# Altium footprint library Mixer.PcbLib: 35 footprints (part 1 of 3)
Each footprint in its own frame and in the unit in brackets; x right, y up, seen from the top. Pads: shape width x height; smd on the part's side, far side on the other; paste and mask are expansions set on the pad; w line width, h text height; cw(c..) or ccw(c..) is an arc to the next point about the centre after c.
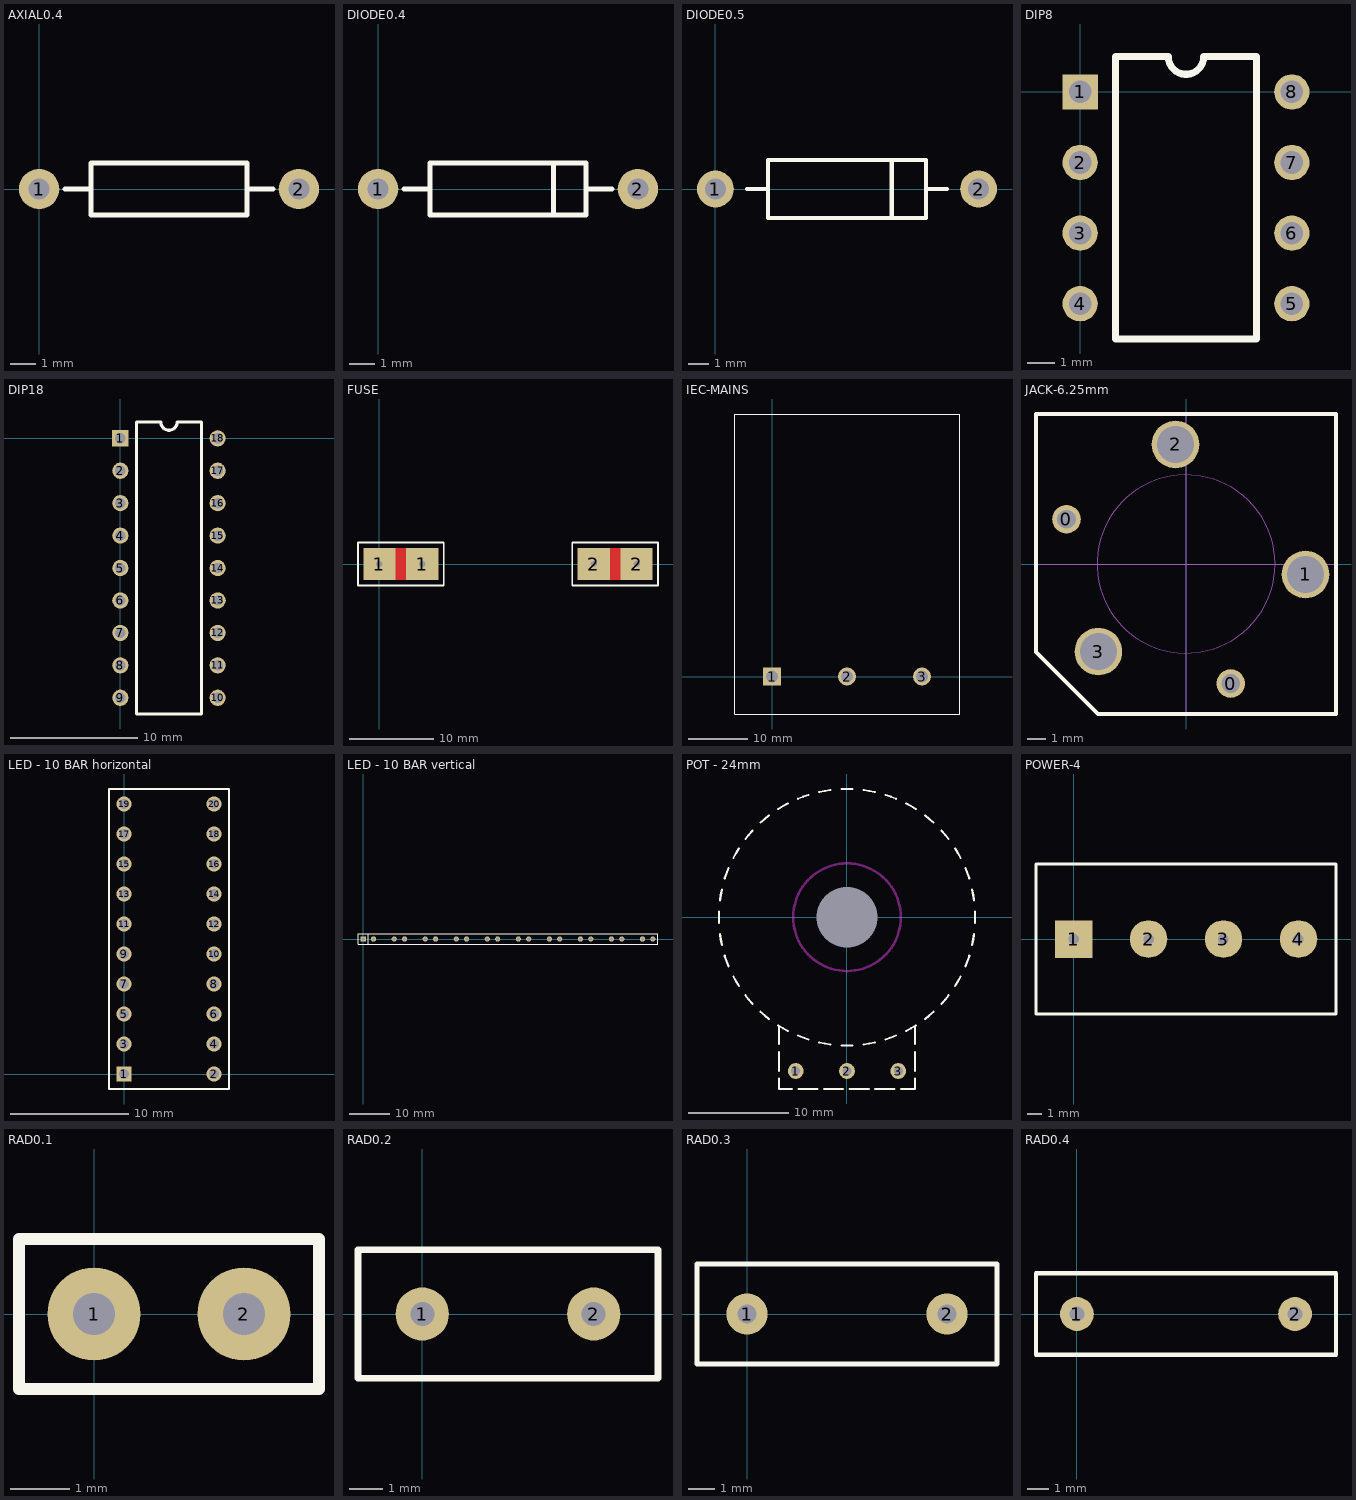
[diagram p0: the footprints below, top view; thin cyan lines are the x and y axes]

## AXIAL0.4 [mil]
pads (2):
  round 62 hole 32: 1(0,0) 2(400,0)
TopOverlay:
  lines w8: 40,0 80,0 ; 320,0 360,0 ; 80,-40 320,-40 320,40 80,40 80,-40

## DIODE0.4 [mil]
pads (2):
  round 62 hole 32: 1(0,0) 2(400,0)
TopOverlay:
  lines w8: 40,0 80,0 ; 270,-40 270,40 ; 320,0 360,0 ; 80,-40 80,40 320,40 320,-40 80,-40

## DIODE0.5 [mil]
pads (2):
  round 70 hole 40: 1(0,0) 2(500,0)
TopOverlay:
  lines w8: 60,0 100,0 ; 335,-55 335,55 ; 400,0 440,0 ; 100,-55 100,55 400,55 400,-55 100,-55

## DIP8 [mil]
pads (8):
  rect 50x50 hole 32: 1(0,0)
  round 50 hole 32: 2(0,-100) 3(0,-200) 4(0,-300) 5(300,-300) 6(300,-200) 7(300,-100) 8(300,0)
TopOverlay:
  lines w10: 50,-350 50,50 125,50 ccw(c150,50) 175,50 250,50 250,-350 50,-350

## DIP18 [mil]
pads (18):
  rect 50x50 hole 32: 1(0,0)
  round 50 hole 32: 2(0,-100) 3(0,-200) 4(0,-300) 5(0,-400) 6(0,-500) 7(0,-600) 8(0,-700) 9(0,-800) 10(300,-800) 11(300,-700) 12(300,-600) 13(300,-500) 14(300,-400) 15(300,-300) 16(300,-200) 17(300,-100) 18(300,0)
TopOverlay:
  lines w10: 50,-850 250,-850 250,50 175,50 cw(c150,50) 125,50 50,50 50,-850

## FUSE [mil]
pads (4):
  rect 150x150 hole 30: 1(0,0) 1(200,0) 2(1000,0) 2(1200,0)
TopLayer:
  region: 150,75 50,75 50,-75 150,-75
  region: 1150,75 1050,75 1050,-75 1150,-75
BottomLayer:
  region: 150,75 50,75 50,-75 150,-75
  region: 1150,75 1050,75 1050,-75 1150,-75
TopOverlay:
  lines w8: -100,-100 300,-100 300,100 -100,100 -100,-100 ; 900,-100 1300,-100 1300,100 900,100 900,-100

## IEC-MAINS [mil]
pads (3):
  rect 120x120 hole 80: 1(0,0)
  round 120 hole 80: 2(500,0) 3(1000,0)
TopOverlay:
  lines w8: -250,-250 -250,1750 1250,1750 1250,-250 -250,-250

## JACK-6.25mm [mil]
pads (5):
  round 60 hole 39: 0(-251,94) 0(94,-251)
  round 100 hole 78: 1(251,-22) 2(-22,251) 3(-184,-184)
TopOverlay:
  lines w8: -315,-185 -315,315 315,315 315,-315 -185,-315 -315,-185
Mechanical 2:
  circle w1: c0,0 r187
  lines w1: -310,0 310,0 ; 0,-310 0,310

## LED - 10 BAR horizontal [mil]
pads (20):
  rect 50x50 hole 32: 1(0,0)
  round 50 hole 32: 2(300,0) 3(0,100) 4(300,100) 5(0,200) 6(300,200) 7(0,300) 8(300,300) 9(0,400) 10(300,400) 11(0,500) 12(300,500) 13(0,600) 14(300,600) 15(0,700) 16(300,700) 17(0,800) 18(300,800) 19(0,900) 20(300,900)
TopOverlay:
  lines w8: -50,-50 -50,950 350,950 350,-50 -50,-50

## LED - 10 BAR vertical [mil]
pads (20):
  rect 50x50 hole 32: 1(0,0)
  round 50 hole 32: 2(100,0) 3(300,0) 4(400,0) 5(600,0) 6(700,0) 7(900,0) 8(1000,0) 9(1200,0) 10(1300,0) 11(1500,0) 12(1600,0) 13(1800,0) 14(1900,0) 15(2100,0) 16(2200,0) 17(2400,0) 18(2500,0) 19(2700,0) 20(2800,0)
TopOverlay:
  lines w8: 50,-50 50,50 ; -50,-50 2850,-50 2850,50 -50,50 -50,-50

## POT - 24mm [mil]
pads (4):
  round 62 hole 35: 1(-200,-600) 2(0,-600) 3(200,-600)
  round 50 hole 236.22 unplated: MNT(0,0)
TopOverlay:
  lines w8: -499.52,-21.81 cw(c0,0) -499.52,21.81 ; -495.72,-65.26 ccw(c0,0) -488.15,-108.22 ; -495.72,65.26 cw(c0,0) -488.15,108.22 ; -476.86,-150.35 ccw(c0,0) -461.94,-191.34 ; -476.86,150.35 cw(c0,0) -461.94,191.34 ; -443.51,-230.87 ccw(c0,0) -421.7,-268.65 ; -443.51,230.87 cw(c0,0) -421.7,268.65 ; -396.68,-304.38 ccw(c0,0) -368.64,-337.8 ; -396.68,304.38 cw(c0,0) -368.64,337.8 ; -337.8,-368.64 ccw(c0,0) -304.38,-396.68 ; -337.8,368.64 cw(c0,0) -304.38,396.68 ; -268.65,-421.7 ccw(c0,0) -230.87,-443.51 ; -268.65,421.7 cw(c0,0) -230.87,443.51 ; -265,-630 -265,-670 -215,-670 ; -265,-600 -265,-525 ; -265,-495 -265,-425 ; -191.34,-461.94 ccw(c0,0) -150.35,-476.86 ; -191.34,461.94 cw(c0,0) -150.35,476.86 ; -190,-670 -115,-670 ; -108.22,-488.15 ccw(c0,0) -65.26,-495.72 ; -108.22,488.15 cw(c0,0) -65.26,495.72 ; -90,-670 -15,-670 ; -21.81,-499.52 ccw(c0,0) 21.81,-499.52 ; -21.81,499.52 cw(c0,0) 21.81,499.52 ; 10,-670 85,-670 ; 65.26,-495.72 ccw(c0,0) 108.22,-488.15 ; 65.26,495.72 cw(c0,0) 108.22,488.15 ; 110,-670 185,-670 ; 150.35,-476.86 ccw(c0,0) 191.34,-461.94 ; 150.35,476.86 cw(c0,0) 191.34,461.94 ; 210,-670 265,-670 265,-630 ; 230.87,-443.51 ccw(c0,0) 268.65,-421.7 ; 230.87,443.51 cw(c0,0) 268.65,421.7 ; 265,-600 265,-525 ; 265,-495 265,-425 ; 304.38,-396.68 ccw(c0,0) 337.8,-368.64 ; 304.38,396.68 cw(c0,0) 337.8,368.64 ; 368.64,-337.8 ccw(c0,0) 396.68,-304.38 ; 368.64,337.8 cw(c0,0) 396.68,304.38 ; 421.7,-268.65 ccw(c0,0) 443.51,-230.87 ; 421.7,268.65 cw(c0,0) 443.51,230.87 ; 461.94,-191.34 ccw(c0,0) 476.86,-150.35 ; 461.94,191.34 cw(c0,0) 476.86,150.35 ; 488.15,-108.22 ccw(c0,0) 495.72,-65.26 ; 488.15,108.22 cw(c0,0) 495.72,65.26 ; 499.52,-21.81 ccw(c0,0) 499.52,21.81
KeepOutLayer:
  circle w10: c0,0 r210

## POWER-4 [mil]
pads (4):
  rect 100x100 hole 28: 1(0,0)
  round 100 hole 28: 2(200,0) 3(400,0) 4(600,0)
TopOverlay:
  lines w8: -100,-200 -100,200 700,200 700,-200 -100,-200

## RAD0.1 [mil]
pads (2):
  round 62 hole 28: 1(0,0) 2(100,0)
TopOverlay:
  lines w8: -50,-50 -50,50 150,50 150,-50 -50,-50

## RAD0.2 [mil]
pads (2):
  round 62 hole 28: 1(0,0) 2(200,0)
TopOverlay:
  lines w8: -75,-75 275,-75 275,75 -75,75 -75,-75

## RAD0.3 [mil]
pads (2):
  round 62 hole 28: 1(0,0) 2(300,0)
TopOverlay:
  lines w8: -75,-75 -75,75 375,75 375,-75 -75,-75

## RAD0.4 [mil]
pads (2):
  round 62 hole 28: 1(0,0) 2(400,0)
TopOverlay:
  lines w8: -75,-75 -75,75 475,75 475,-75 -75,-75